# Altium footprint library HORNET_MOTOR_CONTROLLER.PcbLib: 24 footprints (part 2 of 2)
Each footprint in its own frame and in the unit in brackets; x right, y up, seen from the top. Pads: shape width x height; smd on the part's side, far side on the other; paste and mask are expansions set on the pad; w line width, h text height; cw(c..) or ccw(c..) is an arc to the next point about the centre after c.
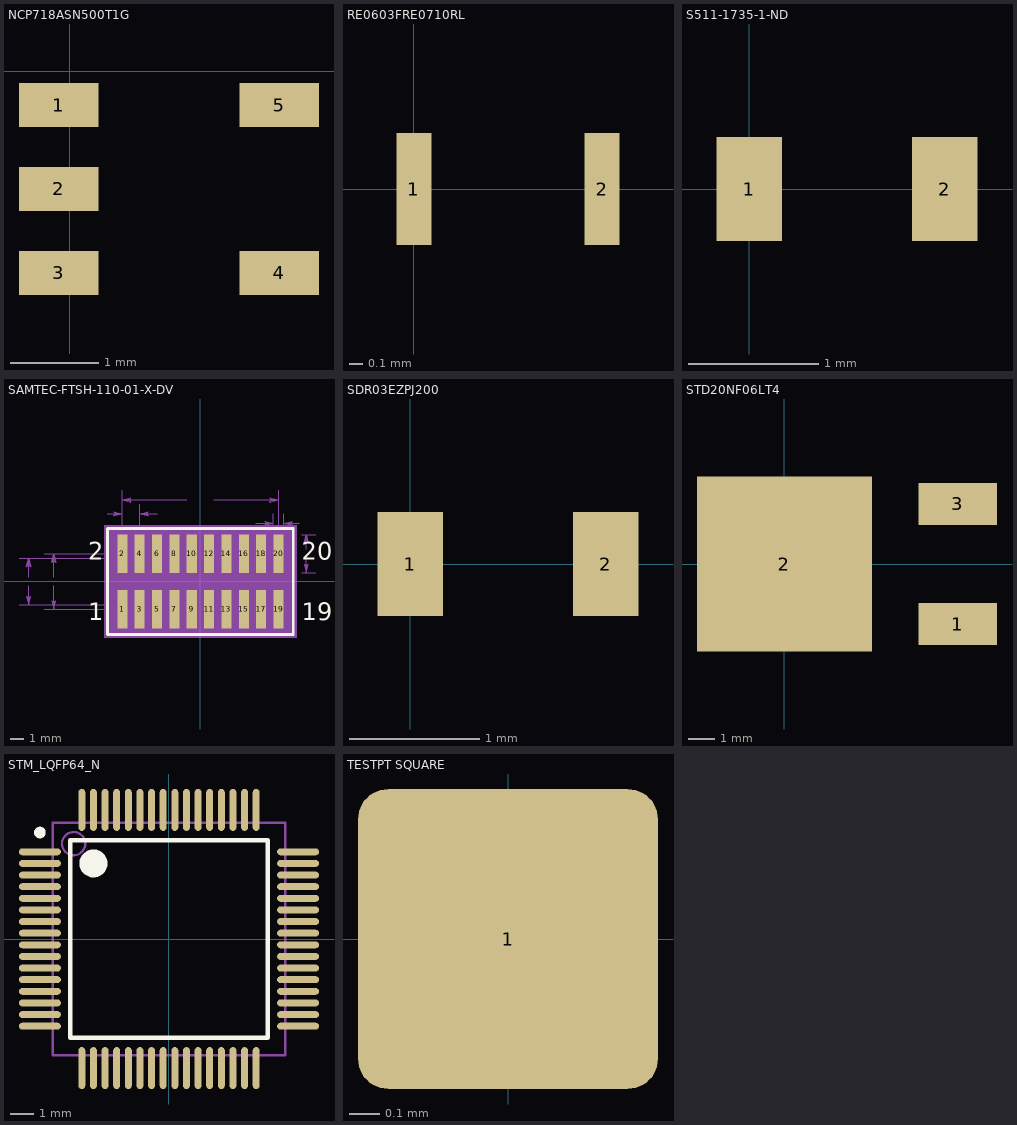
[diagram p1: the footprints below, top view; thin cyan lines are the x and y axes]

## NCP718ASN500T1G [mm]
pads (5):
  rect 0.9x0.5 smd: 1(-0.127,-0.386) 2(-0.127,-1.336) 3(-0.127,-2.286) 4(2.373,-2.286) 5(2.373,-0.386)
3D body "TSOT23-5_ONS.step": height 0.99, standoff 0, extent -0.254,-2.845 2.54,0.051

## RE0603FRE0710RL [mm]
pads (2):
  rect 0.25x0.8 smd: 1(0,0) 2(1.35,0)
3D body "RE0603FRE0710RL.STEP": height 0.55, standoff 0, extent -0.139,-0.4 1.461,0.4

## S511-1735-1-ND [mm]
pads (2):
  rect 0.5x0.8 smd: 1(0,0) 2(1.5,0)
3D body "SDR03EZPJ121.STEP": height 0.55, standoff 0, extent -0.038,-0.4 1.562,0.4

## SAMTEC-FTSH-110-01-X-DV [mm]
pads (20):
  rect 0.74x2.79 smd mask+0: 1(-5.715,-2.032) 2(-5.715,2.032) 3(-4.445,-2.032) 4(-4.445,2.032) 5(-3.175,-2.032) 6(-3.175,2.032) 7(-1.905,-2.032) 8(-1.905,2.032) 9(-0.635,-2.032) 10(-0.635,2.032) 11(0.635,-2.032) 12(0.635,2.032) 13(1.905,-2.032) 14(1.905,2.032) 15(3.175,-2.032) 16(3.175,2.032) 17(4.445,-2.032) 18(4.445,2.032) 19(5.715,-2.032) 20(5.715,2.032)
Top Overlay:
  lines w0.2: -6.8,-3.878 -6.8,3.878 6.8,3.878 6.8,-3.878 -6.8,-3.878
  text "1" at -8.206,-2.845 h1.27
  text "2" at -8.206,1.575 h1.27
  text "19" at 7.406,-2.845 h1.27
  text "20" at 7.406,1.575 h1.27
Top Paste:
  region: -5.345,-3.427 -6.085,-3.427 -6.085,-0.637 -5.345,-0.637
  region: -5.345,0.637 -6.085,0.637 -6.085,3.427 -5.345,3.427
  region: -4.075,-3.427 -4.815,-3.427 -4.815,-0.637 -4.075,-0.637
  region: -4.075,0.637 -4.815,0.637 -4.815,3.427 -4.075,3.427
  region: -2.805,-3.427 -3.545,-3.427 -3.545,-0.637 -2.805,-0.637
  region: -2.805,0.637 -3.545,0.637 -3.545,3.427 -2.805,3.427
  region: -1.535,-3.427 -2.275,-3.427 -2.275,-0.637 -1.535,-0.637
  region: -1.535,0.637 -2.275,0.637 -2.275,3.427 -1.535,3.427
  region: -0.265,-3.427 -1.005,-3.427 -1.005,-0.637 -0.265,-0.637
  region: -0.265,0.637 -1.005,0.637 -1.005,3.427 -0.265,3.427
  region: 1.005,-3.427 0.265,-3.427 0.265,-0.637 1.005,-0.637
  region: 1.005,0.637 0.265,0.637 0.265,3.427 1.005,3.427
  region: 2.275,-3.427 1.535,-3.427 1.535,-0.637 2.275,-0.637
  region: 2.275,0.637 1.535,0.637 1.535,3.427 2.275,3.427
  region: 3.545,-3.427 2.805,-3.427 2.805,-0.637 3.545,-0.637
  region: 3.545,0.637 2.805,0.637 2.805,3.427 3.545,3.427
  region: 4.815,-3.427 4.075,-3.427 4.075,-0.637 4.815,-0.637
  region: 4.815,0.637 4.075,0.637 4.075,3.427 4.815,3.427
  region: 6.085,-3.427 5.345,-3.427 5.345,-0.637 6.085,-0.637
  region: 6.085,0.637 5.345,0.637 5.345,3.427 6.085,3.427
Top Solder:
  region: -5.294,-3.478 -6.136,-3.478 -6.136,-0.586 -5.294,-0.586
  region: -5.294,0.586 -6.136,0.586 -6.136,3.478 -5.294,3.478
  region: -4.024,-3.478 -4.866,-3.478 -4.866,-0.586 -4.024,-0.586
  region: -4.024,0.586 -4.866,0.586 -4.866,3.478 -4.024,3.478
  region: -2.754,-3.478 -3.596,-3.478 -3.596,-0.586 -2.754,-0.586
  region: -2.754,0.586 -3.596,0.586 -3.596,3.478 -2.754,3.478
  region: -1.484,-3.478 -2.326,-3.478 -2.326,-0.586 -1.484,-0.586
  region: -1.484,0.586 -2.326,0.586 -2.326,3.478 -1.484,3.478
  region: -0.214,-3.478 -1.056,-3.478 -1.056,-0.586 -0.214,-0.586
  region: -0.214,0.586 -1.056,0.586 -1.056,3.478 -0.214,3.478
  region: 1.056,-3.478 0.214,-3.478 0.214,-0.586 1.056,-0.586
  region: 1.056,0.586 0.214,0.586 0.214,3.478 1.056,3.478
  region: 2.326,-3.478 1.484,-3.478 1.484,-0.586 2.326,-0.586
  region: 2.326,0.586 1.484,0.586 1.484,3.478 2.326,3.478
  region: 3.596,-3.478 2.754,-3.478 2.754,-0.586 3.596,-0.586
  region: 3.596,0.586 2.754,0.586 2.754,3.478 3.596,3.478
  region: 4.866,-3.478 4.024,-3.478 4.024,-0.586 4.866,-0.586
  region: 4.866,0.586 4.024,0.586 4.024,3.478 4.866,3.478
  region: 6.136,-3.478 5.294,-3.478 5.294,-0.586 6.136,-0.586
  region: 6.136,0.586 5.294,0.586 5.294,3.478 6.136,3.478
Mechanical 13:
  drawing of 330 lines, arcs and shapes, not listed
  text "3.429" at -13.233,-0.127 h0.25
  text "4.064" at -11.392,-0.127 h0.25
  text "1" at -8.206,-2.845 h1.27
  text "2" at -8.206,1.575 h1.27
  text "1.270" at -8.344,4.826 h0.25
  text "12.700" at -0.8,1.143 h0.25
  text "11.430" at -0.8,5.842 h0.25
  text "19" at 7.406,-2.845 h1.27
  text "20" at 7.406,1.575 h1.27
  text "2.794" at 7.087,1.905 h0.25
  text "0.762" at 7.404,4.128 h0.25
Mechanical 15:
  region: 7.035,-4.113 -7.035,-4.113 -7.035,4.113 7.035,4.113

## SDR03EZPJ200 [mm]
pads (2):
  rect 0.5x0.8 smd: 1(0,0) 2(1.5,0)
3D body "SDR03EZPJ200.STEP": height 0.55, standoff 0, extent -0.038,-0.4 1.562,0.4

## STD20NF06LT4 [mm]
pads (3):
  rect 3x1.6 smd: 1(6.65,-2.3) 3(6.65,2.3)
  rect 6.7x6.7 smd: 2(0,0)
3D body "NOPB.STEP": height 2.55, standoff -0.17, extent -2.415,-3.27 7.495,3.27

## STM_LQFP64_N [mm] "Thin QFP, 64-Leads, Body 10x10mm, Pitch 0.5mm, IPC Medium Density"
height 1.6
pads (64):
  oval 1.8x0.3 smd mask+0.05: 1(-5.55,3.75) 2(-5.55,3.25) 3(-5.55,2.75) 4(-5.55,2.25) 5(-5.55,1.75) 6(-5.55,1.25) 7(-5.55,0.75) 8(-5.55,0.25) 9(-5.55,-0.25) 10(-5.55,-0.75) 11(-5.55,-1.25) 12(-5.55,-1.75) 13(-5.55,-2.25) 14(-5.55,-2.75) 15(-5.55,-3.25) 16(-5.55,-3.75) 33(5.55,-3.75) 34(5.55,-3.25) 35(5.55,-2.75) 36(5.55,-2.25) 37(5.55,-1.75) 38(5.55,-1.25) 39(5.55,-0.75) 40(5.55,-0.25) 41(5.55,0.25) 42(5.55,0.75) 43(5.55,1.25) 44(5.55,1.75) 45(5.55,2.25) 46(5.55,2.75) 47(5.55,3.25) 48(5.55,3.75)
  oval 0.3x1.8 smd mask+0.05: 17(-3.75,-5.55) 18(-3.25,-5.55) 19(-2.75,-5.55) 20(-2.25,-5.55) 21(-1.75,-5.55) 22(-1.25,-5.55) 23(-0.75,-5.55) 24(-0.25,-5.55) 25(0.25,-5.55) 26(0.75,-5.55) 27(1.25,-5.55) 28(1.75,-5.55) 29(2.25,-5.55) 30(2.75,-5.55) 31(3.25,-5.55) 32(3.75,-5.55) 49(3.75,5.55) 50(3.25,5.55) 51(2.75,5.55) 52(2.25,5.55) 53(1.75,5.55) 54(1.25,5.55) 55(0.75,5.55) 56(0.25,5.55) 57(-0.25,5.55) 58(-0.75,5.55) 59(-1.25,5.55) 60(-1.75,5.55) 61(-2.25,5.55) 62(-2.75,5.55) 63(-3.25,5.55) 64(-3.75,5.55)
Top Overlay:
  circle w0.25: c-5.55,4.577 r0.125
  circle w0.6: c-3.25,3.25 r0.3
  lines w0.2: -4.25,-4.25 -4.25,4.25 4.25,4.25 4.25,-4.25 -4.25,-4.25
Mechanical 13:
  circle w0.1: c-4.1,4.1 r0.5
  lines w0.1: -5,-5 -5,5 5,5 5,-5 -5,-5
3D body "LQFP64.step": height 1.56, standoff 0, extent -6,-5.99 6,6.01

## TESTPT SQUARE [mm]
pads (1):
  rrect20% 1x1 smd: 1(0,0)